# Altium schematic symbol library TLNN476M010R6000.SchLib: 2 symbols
Pins are listed as number, name and electrical type; pins without a type are passive.

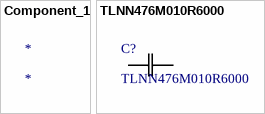
[diagram p0: symbols Component_1 to TLNN476M010R6000]

## Component_1
designator *

## TLNN476M010R6000
designator C?
No Description Available; Mfr_Name: KYOCERA AVX; Type: DEV; Copyright: Copyright (C) 2022 Ultra Librarian. All rights reserved.; Manufacturer_Part_Number: TLNN476M010R6000; RefDes: RefDes
footprint TLNN_AVX
pins: 1 11, 2 12